# EAGLE library part STECKKARTE (library basisplatine_lib)
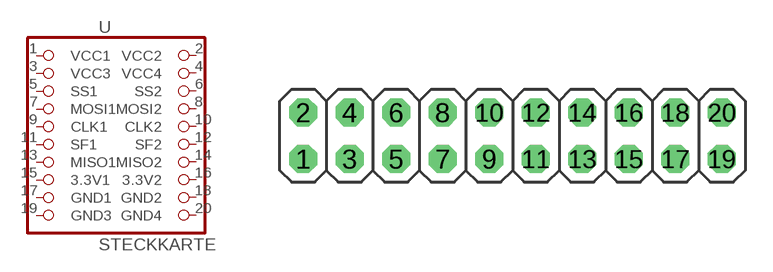
[diagram p2: symbol with the pads of 2X10; footprint 2X10]

Designator prefix -

## STECKKARTE  [2X10]
1  VCC1  pwr
2  VCC2  pwr
3  VCC3  pwr
4  VCC4  pwr
5  SS1  in
6  SS2  in
7  MOSI1  in
8  MOSI2  in
9  CLK1  in
10  CLK2  in
11  SF1  in
12  SF2  in
13  MISO1  out
14  MISO2  out
15  3.3V1  pwr
16  3.3V2  pwr
17  GND1  pwr
18  GND2  pwr
19  GND3  pwr
20  GND4  pwr

## Footprint 2X10 (pad centres in mm)
PIN HEADER
drill 1.016 octagon: 1 -11.43,-1.27; 2 -11.43,1.27; 3 -8.89,-1.27; 4 -8.89,1.27; 5 -6.35,-1.27; 6 -6.35,1.27; 7 -3.81,-1.27; 8 -3.81,1.27; 9 -1.27,-1.27; 10 -1.27,1.27; 11 1.27,-1.27; 12 1.27,1.27; 13 3.81,-1.27; 14 3.81,1.27; 15 6.35,-1.27; 16 6.35,1.27; 17 8.89,-1.27; 18 8.89,1.27; 19 11.43,-1.27; 20 11.43,1.27